# Altium schematic symbol library Misc.SchLib: 2 symbols
Pins are listed as number, name and electrical type; pins without a type are passive.

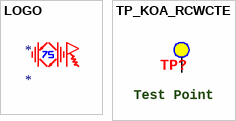
[diagram p0: symbols LOGO to TP_KOA_RCWCTE]

## LOGO
designator *  (graphical)
Logo KKR75
footprint LOGO (Logo KKR75)

## TP_KOA_RCWCTE
designator TP?, comment Test Point
PC Test Point Plating Surface Mount Mounting Type; Manufacturer: KOA Speer; Manufacturer Part Number: RCWCTE; Resistance: 0R; Current Rating: 2A; Category: Chip SMD Resistors; Mounting Technology: Surface Mount; Case/Package: 1206; Min Operating Temperature: -55°C; Max Operating Temperature: 125°C; RoHS Compliant: Yes; ComponentLink1URL: https://www.koaspeer.com/pdfs/RC.pdf; ComponentLink1Description: Datasheet; Supplier 1: Digi-Key; Supplier 2: Mouser; Supplier Part Number 1: 2019-RCWCTECT-ND; Supplier Part Number 2: 660-RCWCTE
footprint KOA_RCWCTE (KOA Speer Test Point Chip EIA 1206); pin to pad 1>TP 2>TP
pins: 1 TP, 2 TP